# EAGLE library part PHEONIX-1844278 (library Ernest_Connectors)
8- Pin 3.5mm pitch, 90 deg, plug-in. Pheonix-1844278 connector. Datasheet: https://media.digikey.com/pdf/Data%20Sheets/Phoenix%20Contact%20PDFs/1844278.pdf
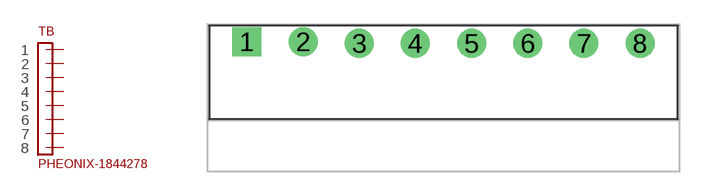
[diagram p1: symbol with the pads of PHEONIX_1844278; footprint PHEONIX_1844278]

Designator prefix TB

## PHEONIX-1844278  [PHEONIX_1844278]
1  1
2  2
3  3
4  4
5  5
6  6
7  7
8  8

## Footprint PHEONIX_1844278 (pad centres in mm)
Footprint for Pheonix-1844278 connector. Datasheet: https://media.digikey.com/pdf/Data%20Sheets/Phoenix%20Contact%20PDFs/1844278.pdf
drill 1.2 square: 1 -12.25,0.1
drill 1.2: 2 -8.75,0.1; 3 -5.25,0; 4 -1.75,0; 5 1.75,0; 6 5.25,0; 7 8.75,0; 8 12.25,0